# EAGLE library part SAMTEC-TFM-120-02-X-D-LC (library SAMTEC-TFM-120-02-X-D-LC)
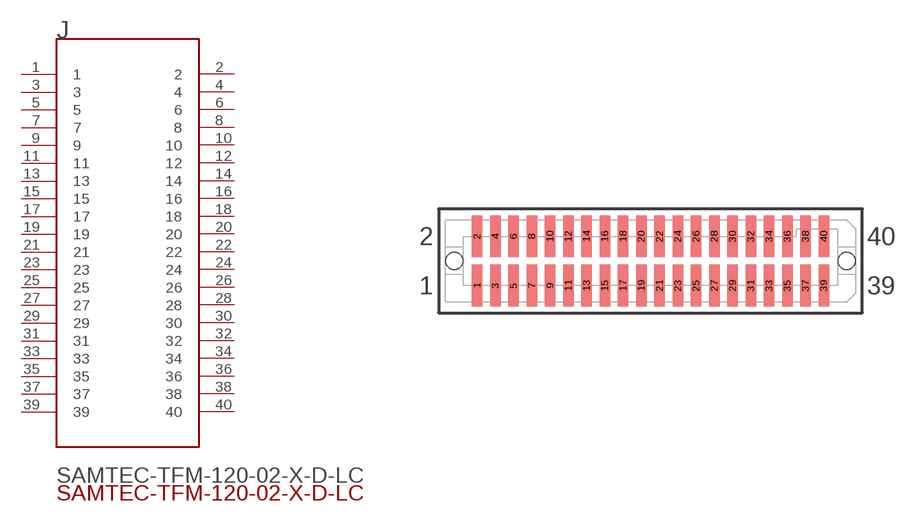
[diagram p0: symbol with the pads of SAMTEC-TFM-120-02-X-D-LC; footprint SAMTEC-TFM-120-02-X-D-LC]

Designator prefix J

## SAMTEC-TFM-120-02-X-D-LCJ (Description: HEADER, 1.27MM, SMT, 2X20POS; Series: TFM; Pitch Spacing: 1.27mm; No. of Rows: 2; N; Digi-Key_Part_Number: SAM10761-ND; Digi-Key_Purchase_URL: https://www.digikey.com/product-detail/en/samtec-inc/TFM-120-02-S-D-LC/SAM10761-ND/1952781?utm_source=snapeda&utm_medium=aggregator&utm_campaign=symbol; MF: Samtec; MP: TFM-120-02-S-D-LC; Package: None)  [SAMTEC-TFM-120-02-X-D-LC]
1  1  pas
2  2  pas
3  3  pas
4  4  pas
5  5  pas
6  6  pas
7  7  pas
8  8  pas
9  9  pas
10  10  pas
11  11  pas
12  12  pas
13  13  pas
14  14  pas
15  15  pas
16  16  pas
17  17  pas
18  18  pas
19  19  pas
20  20  pas
21  21  pas
22  22  pas
23  23  pas
24  24  pas
25  25  pas
26  26  pas
27  27  pas
28  28  pas
29  29  pas
30  30  pas
31  31  pas
32  32  pas
33  33  pas
34  34  pas
35  35  pas
36  36  pas
37  37  pas
38  38  pas
39  39  pas
40  40  pas

## Footprint SAMTEC-TFM-120-02-X-D-LC (pad centres in mm)
translated Allegro footprint
smd 0.74 x 2.92: 1 -12.065,-1.714; 2 -12.065,1.714; 3 -10.795,-1.714; 4 -10.795,1.714; 5 -9.525,-1.714; 6 -9.525,1.714; 7 -8.255,-1.714; 8 -8.255,1.714; 9 -6.985,-1.714; 10 -6.985,1.714; 11 -5.715,-1.714; 12 -5.715,1.714; 13 -4.445,-1.714; 14 -4.445,1.714; 15 -3.175,-1.714; 16 -3.175,1.714; 17 -1.905,-1.714; 18 -1.905,1.714; 19 -0.635,-1.714; 20 -0.635,1.714; 21 0.635,-1.714; 22 0.635,1.714; 23 1.905,-1.714; 24 1.905,1.714; 25 3.175,-1.714; 26 3.175,1.714; 27 4.445,-1.714; 28 4.445,1.714; 29 5.715,-1.714; 30 5.715,1.714; 31 6.985,-1.714; 32 6.985,1.714; 33 8.255,-1.714; 34 8.255,1.714; 35 9.525,-1.714; 36 9.525,1.714; 37 10.795,-1.714; 38 10.795,1.714; 39 12.065,-1.714; 40 12.065,1.714
hole 1.19 at 13.652,0
hole 1.19 at -13.652,0